# EAGLE library part MICRO-SD-SOCKET (library Explore Labs EAGLE Library)
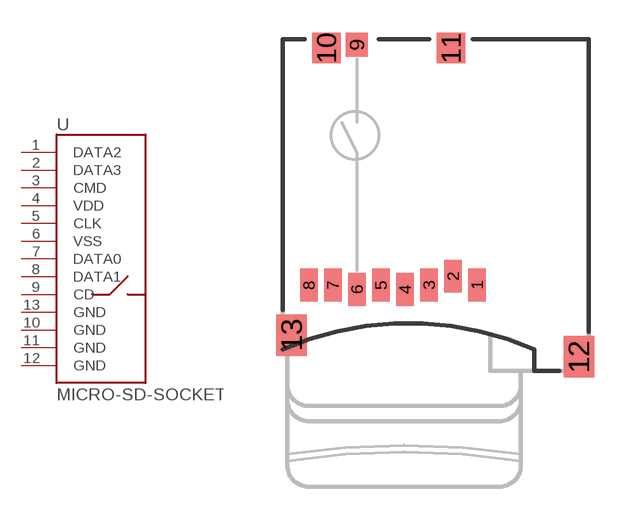
[diagram p27: symbol with the pads of MICRO-SD-SOCKET-GCT; footprint MICRO-SD-SOCKET-GCT]

Designator prefix -

## MICRO-SD-SOCKETMEM2051  [MICRO-SD-SOCKET-GCT]
1  DATA2
2  DATA3
3  CMD
4  VDD
5  CLK
6  VSS
7  DATA0
8  DATA1
9  CD
10  GND
11  GND
12  GND
13  GND

## Footprint MICRO-SD-SOCKET-GCT (pad centres in mm)
smd 0.8 x 1.5: 1 1.89,-3.26; 2 0.79,-2.86; 3 -0.31,-3.26; 4 -1.41,-3.46; 5 -2.51,-3.26; 6 -3.61,-3.46; 7 -4.71,-3.26; 8 -5.81,-3.26
smd 1 x 1.1: 9 -3.61,7.75
smd 1.3 x 1.4: 10 -5,7.6; 11 0.7,7.6
smd 1.4 x 1.9: 12 6.55,-6.55; 13 -6.6,-5.55